# Altium footprint library VG039NCHXTB104.PcbLib: 1 footprints
Each footprint in its own frame and in the unit in brackets; x right, y up, seen from the top. Pads: shape width x height; smd on the part's side, far side on the other; paste and mask are expansions set on the pad; w line width, h text height; cw(c..) or ccw(c..) is an arc to the next point about the centre after c.
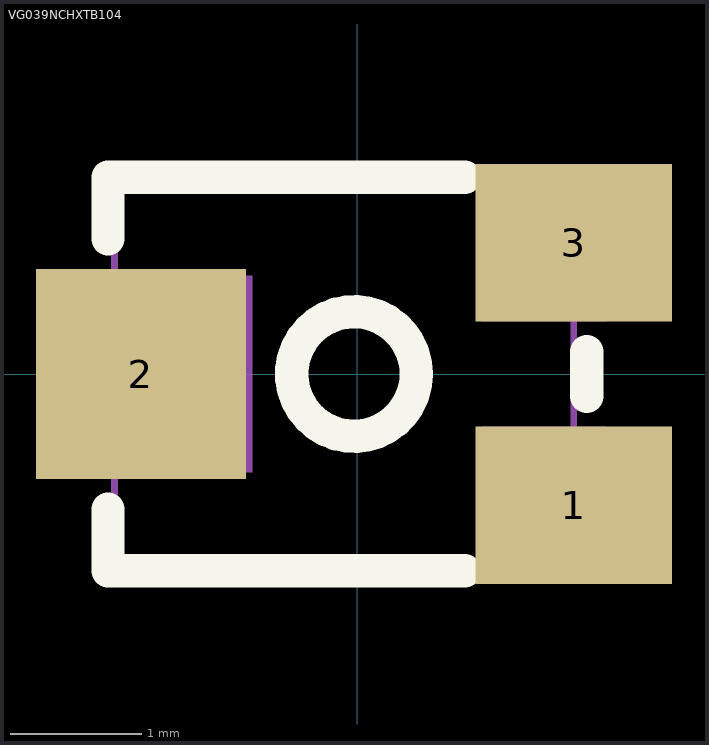
[diagram p0: the footprint, top view; thin cyan lines are the x and y axes]

## VG039NCHXTB104 [mm]
pads (3):
  rect 1.5x1.2 smd paste+0 mask+0.051: 1(1.649,-1) 3(1.649,1)
  rect 1.6x1.6 smd paste+0 mask+0.051: 2(-1.651,0)
Top Overlay:
  circle w0.254: c-0.026,0 r0.475
  lines w0.254: -0.101,1.5 -1.901,1.5 ; 0.818,-1.5 -0.101,-1.5 -1.901,-1.5 ; 0.818,1.5 -1.901,1.5 ; 1.749,-0.169 1.749,0.169 ; -1.901,-1.5 -1.901,-1.031 ; -1.901,-1.5 -1.901,-1.031 ; -1.901,-1.5 -1.901,-1.031 ; -1.901,1.031 -1.901,1.5 ; -1.901,1.031 -1.901,1.5 ; -1.901,1.031 -1.901,1.5
Mechanical 6:
  circle w0.2: c2.099,-1.2 r0.1
Mechanical 15:
  region: -0.801,0.75 -0.801,-0.75 -1.851,-0.75 -1.851,0.75
  region: 1.898,-0.401 1.898,-1.351 0.948,-1.351 0.948,-0.401
  region: 1.898,1.351 1.898,0.401 0.948,0.401 0.948,1.351
  region: 1.958,-1.5 1.957,-1.476 1.922,-1.443 1.874,-1.443 1.839,-1.476 1.838,-1.5 1.839,-1.524 1.874,-1.557 1.922,-1.557 1.957,-1.524 1.958,-1.5
  lines w0.051: -1.851,-1.5 -1.851,1.5 1.649,1.5 1.649,0 1.649,-1.5 -1.851,-1.5